# EAGLE library part MIC2548 (library 1)
Programmable Current Limit High-Side Switch
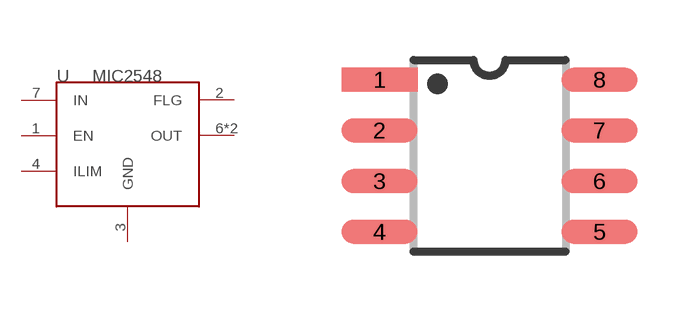
[diagram p54: symbol with the pads of SOIC-8; footprint SOIC-8]

Designator prefix U

## MIC2548-2YM  [SOIC-8]
1  EN
2  FLG
3  GND
4  ILIM
6  OUT
7  IN
8  OUT

## Footprint SOIC-8 (pad centres in mm)
SOIC-8
smd 1.9 x 0.6: 1 -2.75,1.905; 2 -2.75,0.635; 3 -2.75,-0.635; 4 -2.75,-1.905; 5 2.75,-1.905; 6 2.75,-0.635; 7 2.75,0.635; 8 2.75,1.905